# EAGLE library part ARDUINO_R3_ICSP (library cyclops)
Arduino UNO R3 Sheild with ICSP
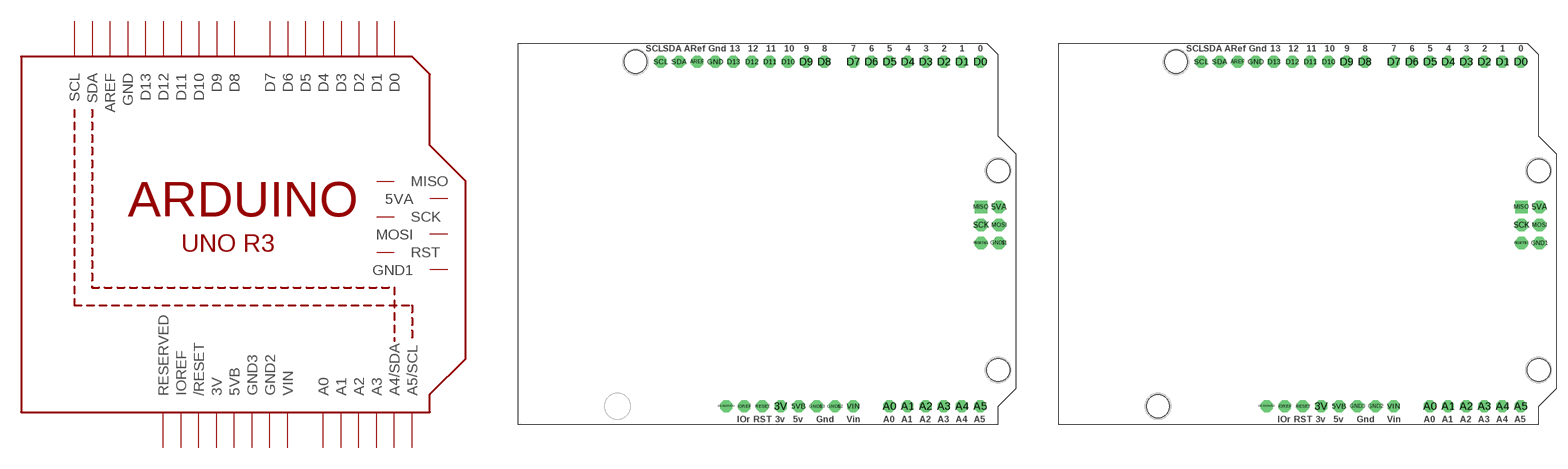
[diagram p2: symbol with the pads of ARDUINOR3_ICSP; footprints ARDUINOR3_ICSP, ARUDINOR3_PINS]

Designator prefix -

## ARDUINO_R3_ICSP  [ARDUINOR3_ICSP]
3V  3V  pas
5VA  5VA  pas
5VB  5VB  pas
A0  A0
A1  A1
A2  A2
A3  A3
A4  A4/SDA
A5  A5/SCL
AREF  AREF
D0  D0
D1  D1
D2  D2
D3  D3
D4  D4
D5  D5
D6  D6
D7  D7
D8  D8
D9  D9
D10  D10
D11  D11
D12  D12
D13  D13
GND  GND  pas
GND$1  GND1  pas
GND$2  GND2  pas
GND$3  GND3  pas
IOREF  IOREF  out
MISO  MISO  pas
MOSI  MOSI  pas
RESERVED  RESERVED  nc
RESET  /RESET
RESET$1  RST  pas
SCK  SCK  pas
SCL  SCL
SDA  SDA
VIN  VIN  pwr

## ARDUINO_R3_ICSP_PINS  [ARUDINOR3_PINS]
3V  3V  pas
5VA  5VA  pas
5VB  5VB  pas
A0  A0
A1  A1
A2  A2
A3  A3
A4  A4/SDA
A5  A5/SCL
AREF  AREF
D0  D0
D1  D1
D2  D2
D3  D3
D4  D4
D5  D5
D6  D6
D7  D7
D8  D8
D9  D9
D10  D10
D11  D11
D12  D12
D13  D13
GND  GND  pas
GND1  GND1  pas
GND2  GND2  pas
GND3  GND3  pas
IOREF  IOREF  out
MISO  MISO  pas
MOSI  MOSI  pas
RESERVED  RESERVED  nc
RESET  /RESET
RESET$1  RST  pas
SCK  SCK  pas
SCL  SCL
SDA  SDA
VIN  VIN  pwr

## Footprint ARDUINOR3_ICSP (pad centres in mm)
Arduino R3 Shield with ISCP
drill 1 pad 1.676 octagon: 3V 35.56,2.54; 5VB 38.1,2.54; A0 50.8,2.54; A1 53.34,2.54; A2 55.88,2.54; A3 58.42,2.54; A4 60.96,2.54; A5 63.5,2.54; AREF 23.876,50.8; D0 63.5,50.8; D1 60.96,50.8; D2 58.42,50.8; D3 55.88,50.8; D4 53.34,50.8; D5 50.8,50.8; D6 48.26,50.8; D7 45.72,50.8; D8 41.656,50.8; D9 39.116,50.8; D10 36.576,50.8; D11 34.036,50.8; D12 31.496,50.8; D13 28.956,50.8; GND 26.416,50.8; GND$2 43.18,2.54; GND$3 40.64,2.54; IOREF 30.48,2.54; RESERVED 27.94,2.54; RESET 33.02,2.54; SCL 18.796,50.8; SDA 21.336,50.8; VIN 45.72,2.54
drill 1 pad 1.778 octagon: 5VA 66.167,30.48; GND$1 66.167,25.4; MOSI 66.167,27.94; RESET$1 63.627,25.4; SCK 63.627,27.94
drill 1 pad 1.778 square: MISO 63.627,30.48
hole 3.2 at 15.24,50.8
hole 3.2 at 66.04,35.56
hole 3.2 at 66.04,7.62

## Footprint ARUDINOR3_PINS (pad centres in mm)
drill 1 pad 1.676 octagon: 3V 36.83,2.54; 5VB 39.37,2.54; A0 52.07,2.54; A1 54.61,2.54; A2 57.15,2.54; A3 59.69,2.54; A4 62.23,2.54; A5 64.77,2.54; AREF 25.146,50.8; D0 64.77,50.8; D1 62.23,50.8; D2 59.69,50.8; D3 57.15,50.8; D4 54.61,50.8; D5 52.07,50.8; D6 49.53,50.8; D7 46.99,50.8; D8 42.926,50.8; D9 40.386,50.8; D10 37.846,50.8; D11 35.306,50.8; D12 32.766,50.8; D13 30.226,50.8; GND 27.686,50.8; GND2 44.45,2.54; GND3 41.91,2.54; IOREF 31.75,2.54; RESERVED 29.21,2.54; RESET 34.29,2.54; SCL 20.066,50.8; SDA 22.606,50.8; VIN 46.99,2.54
drill 1 pad 1.778 octagon: 5VA 67.437,30.48; GND1 67.437,25.4; MOSI 67.437,27.94; RESET$1 64.897,25.4; SCK 64.897,27.94
drill 1 pad 1.778 square: MISO 64.897,30.48
hole 3.2 at 16.51,50.8
hole 3.2 at 67.31,35.56
hole 3.2 at 67.31,7.62
hole 3.2 at 13.97,2.54